# Altium integrated library Linear Technology PMIC-Switching Reg LTC1174-LTC3901.IntLib: 2647 symbols (part 61 of 310)
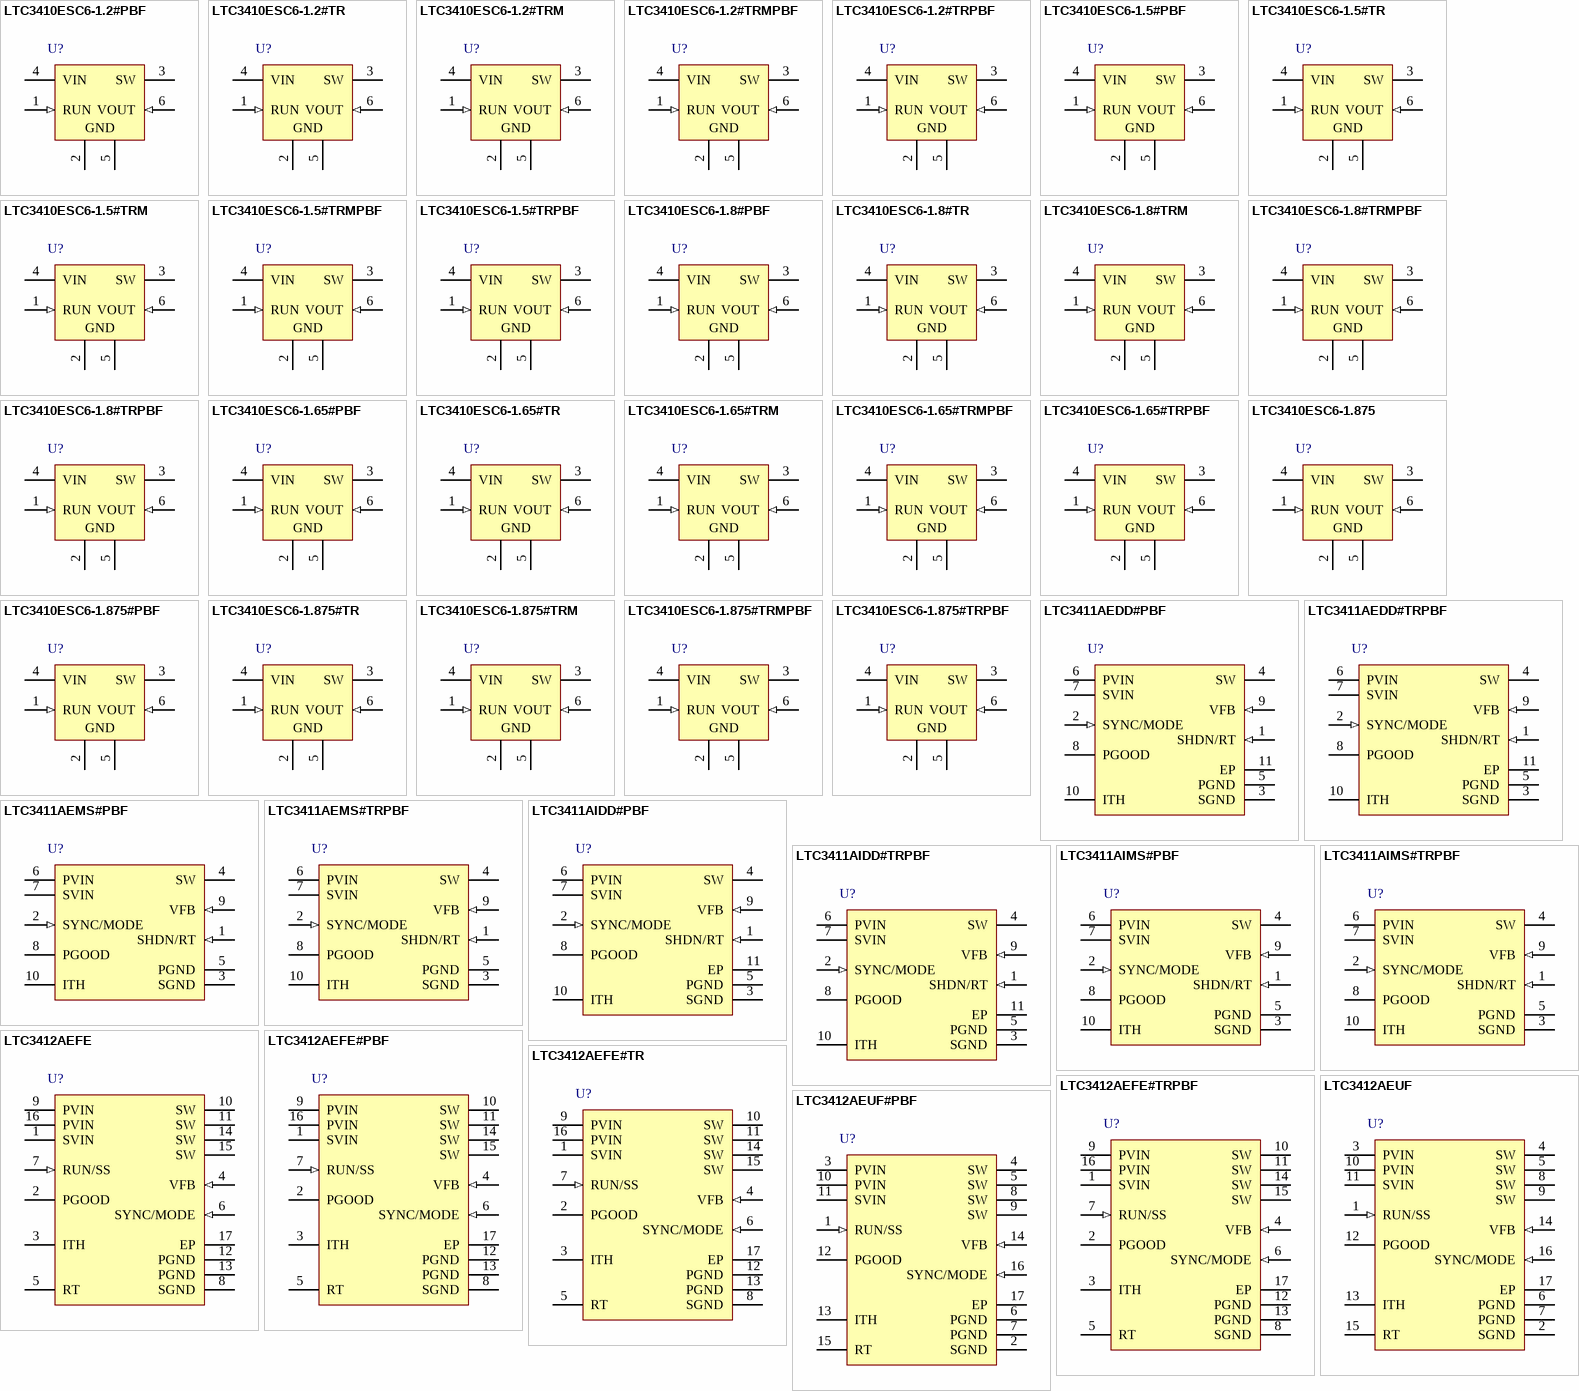
[diagram p151: symbols LTC3410ESC6-1.2#PBF to LTC3412AEUF#PBF]

## LTC3412AEUF
designator U?
3 A, 4 MHz, Monolithic Synchronous Step-Down Regulator, 16-pin QFN (UF-16), -40 to 125 degC; Manufacturer: Linear Technology; PartNumber: LTC3412AEUF; Number of Outputs: 1; PackageReference: UF-16; PackageDescription: 16-Pin Plastic QFN, Body 4 x 4 mm, Pitch 0.65 mm; Supplier 1: Newark; Supplier Part Number 1: 58M0740; RoHS: FALSE; Code_JEDEC: MO-220
footprint LT-UF-16_N (QFN, 16-Leads, Body 4.1x4.1mm, Pitch 0.65mm, Thermal Pad 2.15x2.15mm, IPC Medium Density)
footprint LT-UF-16_L (QFN, 16-Leads, Body 4.1x4.1mm, Pitch 0.65mm, Thermal Pad 2.15x2.15mm, IPC High Density)
footprint LT-UF-16_M (QFN, 16-Leads, Body 4.1x4.1mm, Pitch 0.65mm, Thermal Pad 2.15x2.15mm, IPC Low Density)
pins: 1 RUN/SS (in) "Run Control and Soft-Start Input. Forcing this pin below 0.5V shuts down the LTC3412A. In shutdown all functions are disabled drawing <1uA of supply current. A capacitor to ground from this pin sets the ramp time to full (See Datasheet)", 2 SGND (power) "Signal Ground. All small-signal components, compensation components and the exposed pad on the bottom side of the IC should connect to this ground, which in turn connects to PGND at one point.", 3 PVIN (power) "Power Input Supply. Decouple this pin to PGND with a capacitor.", 4 SW (power) "Switch Node Connection to the Inductor. This pin connects to the drains of the internal main and synchronous power MOSFET switches.", 5 SW (power) "Switch Node Connection to the Inductor. This pin connects to the drains of the internal main and synchronous power MOSFET switches.", 6 PGND (power) "Power Ground. Connect this pin close to the (-) terminal of CIN and COUT.", 7 PGND (power) "Power Ground. Connect this pin close to the (-) terminal of CIN and COUT.", 8 SW (power) "Switch Node Connection to the Inductor. This pin connects to the drains of the internal main and synchronous power MOSFET switches.", 9 SW (power) "Switch Node Connection to the Inductor. This pin connects to the drains of the internal main and synchronous power MOSFET switches.", 10 PVIN (power) "Power Input Supply. Decouple this pin to PGND with a capacitor.", 11 SVIN (power) "Signal Input Supply. Decouple this pin to SGND with a capacitor.", 12 PGOOD (oc) "Power Good Output. Open-drain logic output that is pulled to ground when the output voltage is not within +/-7.5% of regulation point.", 13 ITH "Error Amplifier Compensation Point. The current comparator threshold increases with this control voltage. Nominal voltage range for this pin is from 0.2V to 1.4V with 0.4V corresponding to the zero-sense voltage (zero (See Datasheet)", 14 VFB (in) "Feedback Pin. Receives the feedback voltage from a resistive divider connected across the output.", 15 RT "Oscillator Resistor Input. Connecting a resistor to ground from this pin sets the switching frequency.", 16 SYNC/MODE (in) "Mode Select and External Clock Synchronization Input. To select forced continuous, tie to SVIN. Connecting this pin to a voltage between 0V and 1V selects Burst Mode operation with the burst clamp set to the pin voltage.", 17 EP (power) "Signal Ground. Must be soldered to PCB for electrical connection and rated thermal performance."

## LTC3412AEUF#PBF
designator U?
3 A, 4 MHz, Monolithic Synchronous Step-Down Regulator, 16-pin QFN (UF-16), -40 to 125 degC, Pb-Free; Manufacturer: Linear Technology; PartNumber: LTC3412AEUF#PBF; Number of Outputs: 1; PackageReference: UF-16; PackageDescription: 16-Pin Plastic QFN, Body 4 x 4 mm, Pitch 0.65 mm; Supplier 1: Digi-Key; Supplier Part Number 1: LTC3412AEUF#PBF-ND; RoHS: TRUE; Code_JEDEC: MO-220
footprint LT-UF-16_N (QFN, 16-Leads, Body 4.1x4.1mm, Pitch 0.65mm, Thermal Pad 2.15x2.15mm, IPC Medium Density)
footprint LT-UF-16_L (QFN, 16-Leads, Body 4.1x4.1mm, Pitch 0.65mm, Thermal Pad 2.15x2.15mm, IPC High Density)
footprint LT-UF-16_M (QFN, 16-Leads, Body 4.1x4.1mm, Pitch 0.65mm, Thermal Pad 2.15x2.15mm, IPC Low Density)
pins: 1 RUN/SS (in) "Run Control and Soft-Start Input. Forcing this pin below 0.5V shuts down the LTC3412A. In shutdown all functions are disabled drawing <1uA of supply current. A capacitor to ground from this pin sets the ramp time to full (See Datasheet)", 2 SGND (power) "Signal Ground. All small-signal components, compensation components and the exposed pad on the bottom side of the IC should connect to this ground, which in turn connects to PGND at one point.", 3 PVIN (power) "Power Input Supply. Decouple this pin to PGND with a capacitor.", 4 SW (power) "Switch Node Connection to the Inductor. This pin connects to the drains of the internal main and synchronous power MOSFET switches.", 5 SW (power) "Switch Node Connection to the Inductor. This pin connects to the drains of the internal main and synchronous power MOSFET switches.", 6 PGND (power) "Power Ground. Connect this pin close to the (-) terminal of CIN and COUT.", 7 PGND (power) "Power Ground. Connect this pin close to the (-) terminal of CIN and COUT.", 8 SW (power) "Switch Node Connection to the Inductor. This pin connects to the drains of the internal main and synchronous power MOSFET switches.", 9 SW (power) "Switch Node Connection to the Inductor. This pin connects to the drains of the internal main and synchronous power MOSFET switches.", 10 PVIN (power) "Power Input Supply. Decouple this pin to PGND with a capacitor.", 11 SVIN (power) "Signal Input Supply. Decouple this pin to SGND with a capacitor.", 12 PGOOD (oc) "Power Good Output. Open-drain logic output that is pulled to ground when the output voltage is not within +/-7.5% of regulation point.", 13 ITH "Error Amplifier Compensation Point. The current comparator threshold increases with this control voltage. Nominal voltage range for this pin is from 0.2V to 1.4V with 0.4V corresponding to the zero-sense voltage (zero (See Datasheet)", 14 VFB (in) "Feedback Pin. Receives the feedback voltage from a resistive divider connected across the output.", 15 RT "Oscillator Resistor Input. Connecting a resistor to ground from this pin sets the switching frequency.", 16 SYNC/MODE (in) "Mode Select and External Clock Synchronization Input. To select forced continuous, tie to SVIN. Connecting this pin to a voltage between 0V and 1V selects Burst Mode operation with the burst clamp set to the pin voltage.", 17 EP (power) "Signal Ground. Must be soldered to PCB for electrical connection and rated thermal performance."

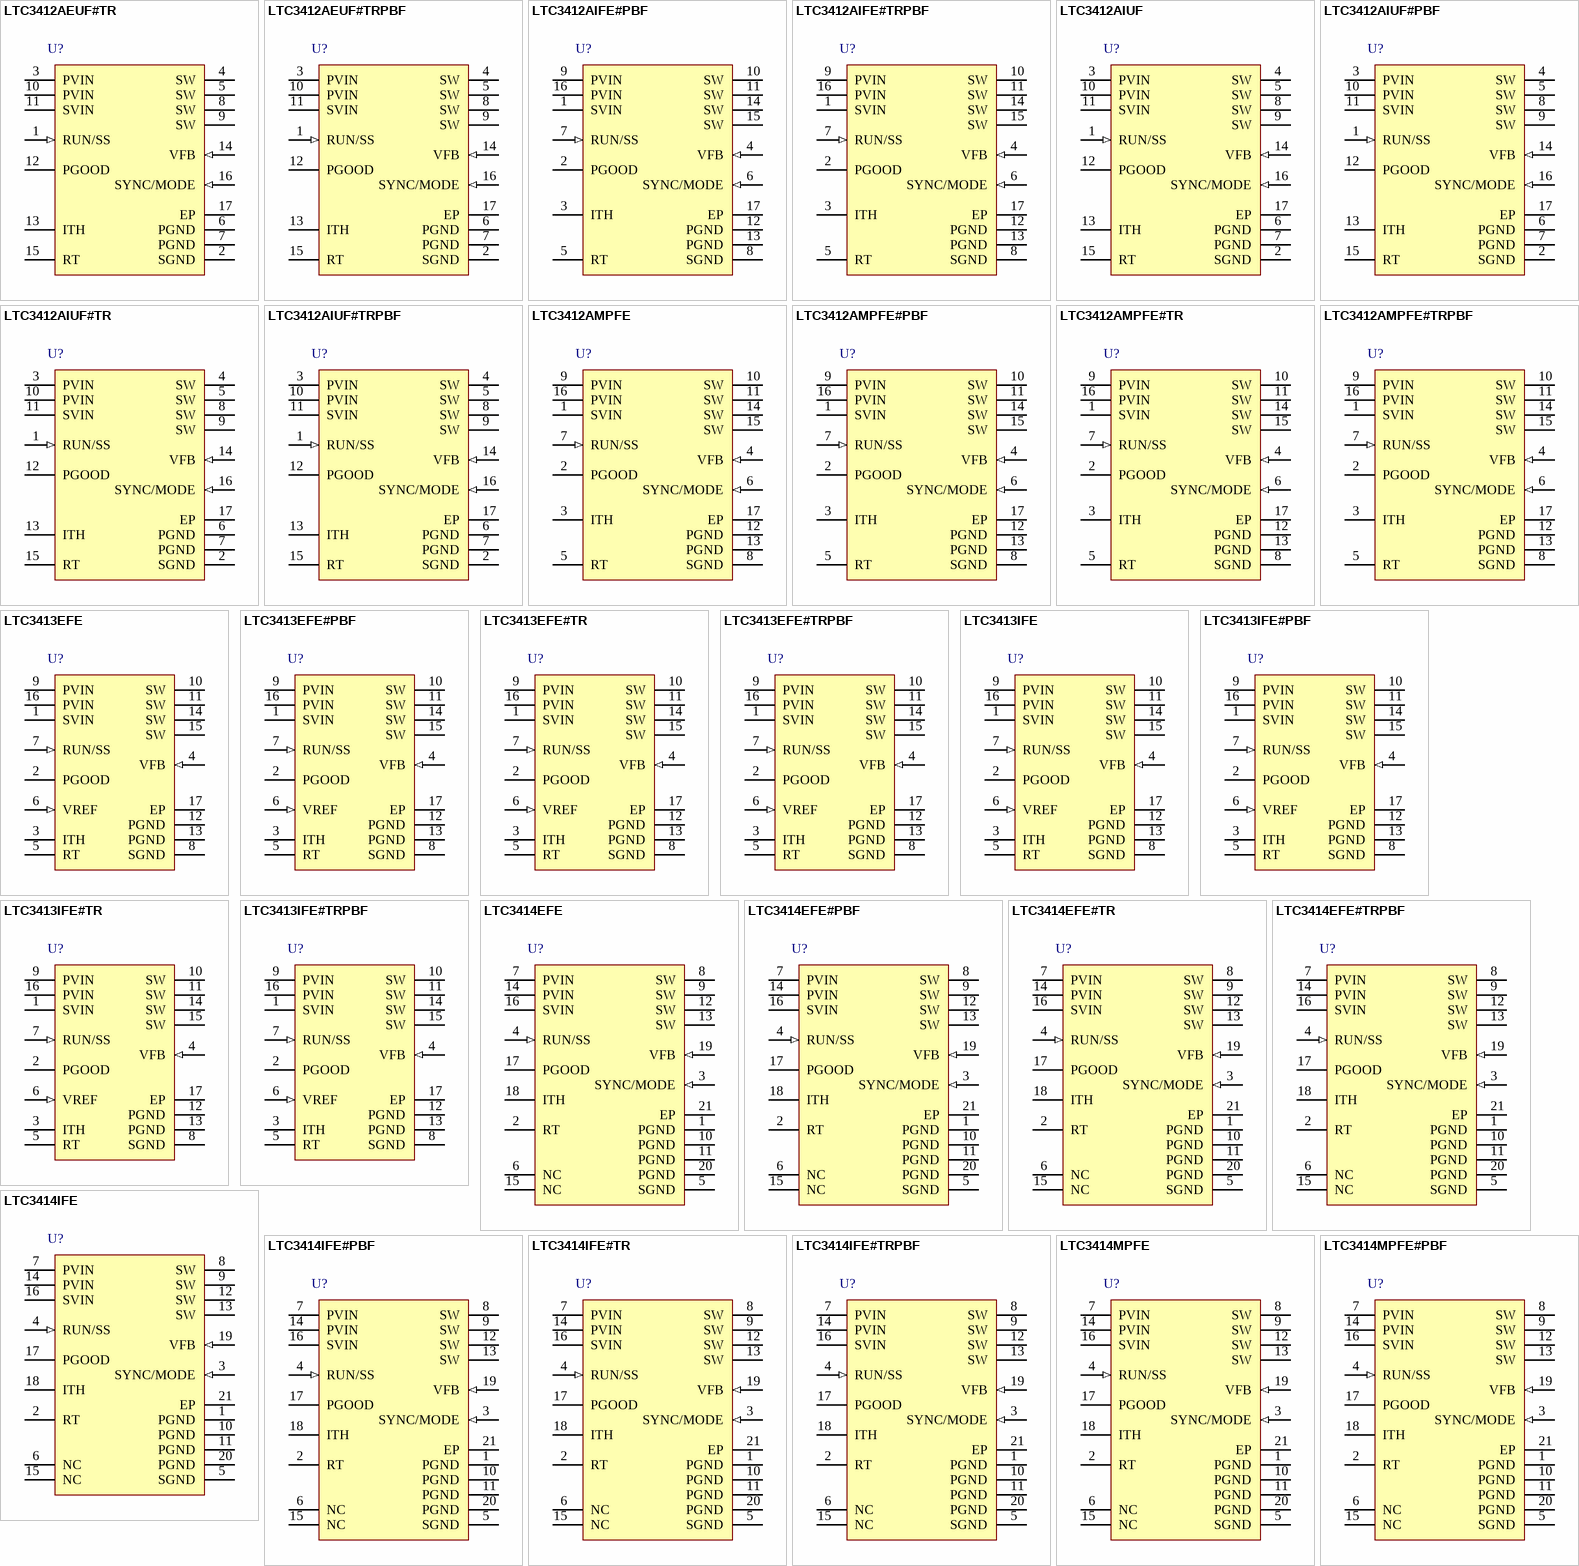
[diagram p22: symbols LTC3412AEUF#TR to LTC3414MPFE#PBF]

## LTC3412AEUF#TR
designator U?
3 A, 4 MHz, Monolithic Synchronous Step-Down Regulator, 16-pin QFN (UF-16), -40 to 125 degC, Tape and Reel; Manufacturer: Linear Technology; PartNumber: LTC3412AEUF#TR; Number of Outputs: 1; PackageReference: UF-16; PackageDescription: 16-Pin Plastic QFN, Body 4 x 4 mm, Pitch 0.65 mm; RoHS: FALSE; Code_JEDEC: MO-220
footprint LT-UF-16_N (QFN, 16-Leads, Body 4.1x4.1mm, Pitch 0.65mm, Thermal Pad 2.15x2.15mm, IPC Medium Density)
footprint LT-UF-16_L (QFN, 16-Leads, Body 4.1x4.1mm, Pitch 0.65mm, Thermal Pad 2.15x2.15mm, IPC High Density)
footprint LT-UF-16_M (QFN, 16-Leads, Body 4.1x4.1mm, Pitch 0.65mm, Thermal Pad 2.15x2.15mm, IPC Low Density)
pins: 1 RUN/SS (in) "Run Control and Soft-Start Input. Forcing this pin below 0.5V shuts down the LTC3412A. In shutdown all functions are disabled drawing <1uA of supply current. A capacitor to ground from this pin sets the ramp time to full (See Datasheet)", 2 SGND (power) "Signal Ground. All small-signal components, compensation components and the exposed pad on the bottom side of the IC should connect to this ground, which in turn connects to PGND at one point.", 3 PVIN (power) "Power Input Supply. Decouple this pin to PGND with a capacitor.", 4 SW (power) "Switch Node Connection to the Inductor. This pin connects to the drains of the internal main and synchronous power MOSFET switches.", 5 SW (power) "Switch Node Connection to the Inductor. This pin connects to the drains of the internal main and synchronous power MOSFET switches.", 6 PGND (power) "Power Ground. Connect this pin close to the (-) terminal of CIN and COUT.", 7 PGND (power) "Power Ground. Connect this pin close to the (-) terminal of CIN and COUT.", 8 SW (power) "Switch Node Connection to the Inductor. This pin connects to the drains of the internal main and synchronous power MOSFET switches.", 9 SW (power) "Switch Node Connection to the Inductor. This pin connects to the drains of the internal main and synchronous power MOSFET switches.", 10 PVIN (power) "Power Input Supply. Decouple this pin to PGND with a capacitor.", 11 SVIN (power) "Signal Input Supply. Decouple this pin to SGND with a capacitor.", 12 PGOOD (oc) "Power Good Output. Open-drain logic output that is pulled to ground when the output voltage is not within +/-7.5% of regulation point.", 13 ITH "Error Amplifier Compensation Point. The current comparator threshold increases with this control voltage. Nominal voltage range for this pin is from 0.2V to 1.4V with 0.4V corresponding to the zero-sense voltage (zero (See Datasheet)", 14 VFB (in) "Feedback Pin. Receives the feedback voltage from a resistive divider connected across the output.", 15 RT "Oscillator Resistor Input. Connecting a resistor to ground from this pin sets the switching frequency.", 16 SYNC/MODE (in) "Mode Select and External Clock Synchronization Input. To select forced continuous, tie to SVIN. Connecting this pin to a voltage between 0V and 1V selects Burst Mode operation with the burst clamp set to the pin voltage.", 17 EP (power) "Signal Ground. Must be soldered to PCB for electrical connection and rated thermal performance."

## LTC3412AEUF#TRPBF
designator U?
3 A, 4 MHz, Monolithic Synchronous Step-Down Regulator, 16-pin QFN (UF-16), -40 to 125 degC, Pb-Free, Tape and Reel; Manufacturer: Linear Technology; PartNumber: LTC3412AEUF#TRPBF; Number of Outputs: 1; PackageReference: UF-16; PackageDescription: 16-Pin Plastic QFN, Body 4 x 4 mm, Pitch 0.65 mm; Supplier 1: Digi-Key; Supplier Part Number 1: LTC3412AEUF#TRPBF-ND; RoHS: TRUE; Code_JEDEC: MO-220
footprint LT-UF-16_N (QFN, 16-Leads, Body 4.1x4.1mm, Pitch 0.65mm, Thermal Pad 2.15x2.15mm, IPC Medium Density)
footprint LT-UF-16_L (QFN, 16-Leads, Body 4.1x4.1mm, Pitch 0.65mm, Thermal Pad 2.15x2.15mm, IPC High Density)
footprint LT-UF-16_M (QFN, 16-Leads, Body 4.1x4.1mm, Pitch 0.65mm, Thermal Pad 2.15x2.15mm, IPC Low Density)
pins: 1 RUN/SS (in) "Run Control and Soft-Start Input. Forcing this pin below 0.5V shuts down the LTC3412A. In shutdown all functions are disabled drawing <1uA of supply current. A capacitor to ground from this pin sets the ramp time to full (See Datasheet)", 2 SGND (power) "Signal Ground. All small-signal components, compensation components and the exposed pad on the bottom side of the IC should connect to this ground, which in turn connects to PGND at one point.", 3 PVIN (power) "Power Input Supply. Decouple this pin to PGND with a capacitor.", 4 SW (power) "Switch Node Connection to the Inductor. This pin connects to the drains of the internal main and synchronous power MOSFET switches.", 5 SW (power) "Switch Node Connection to the Inductor. This pin connects to the drains of the internal main and synchronous power MOSFET switches.", 6 PGND (power) "Power Ground. Connect this pin close to the (-) terminal of CIN and COUT.", 7 PGND (power) "Power Ground. Connect this pin close to the (-) terminal of CIN and COUT.", 8 SW (power) "Switch Node Connection to the Inductor. This pin connects to the drains of the internal main and synchronous power MOSFET switches.", 9 SW (power) "Switch Node Connection to the Inductor. This pin connects to the drains of the internal main and synchronous power MOSFET switches.", 10 PVIN (power) "Power Input Supply. Decouple this pin to PGND with a capacitor.", 11 SVIN (power) "Signal Input Supply. Decouple this pin to SGND with a capacitor.", 12 PGOOD (oc) "Power Good Output. Open-drain logic output that is pulled to ground when the output voltage is not within +/-7.5% of regulation point.", 13 ITH "Error Amplifier Compensation Point. The current comparator threshold increases with this control voltage. Nominal voltage range for this pin is from 0.2V to 1.4V with 0.4V corresponding to the zero-sense voltage (zero (See Datasheet)", 14 VFB (in) "Feedback Pin. Receives the feedback voltage from a resistive divider connected across the output.", 15 RT "Oscillator Resistor Input. Connecting a resistor to ground from this pin sets the switching frequency.", 16 SYNC/MODE (in) "Mode Select and External Clock Synchronization Input. To select forced continuous, tie to SVIN. Connecting this pin to a voltage between 0V and 1V selects Burst Mode operation with the burst clamp set to the pin voltage.", 17 EP (power) "Signal Ground. Must be soldered to PCB for electrical connection and rated thermal performance."

## LTC3412AIFE#PBF
designator U?
3 A, 4 MHz, Monolithic Synchronous Step-Down Regulator, 16-pin SOP (FE-16-EPV-BA), -40 to 125 degC, Pb-Free; Manufacturer: Linear Technology; PartNumber: LTC3412AIFE#PBF; Number of Outputs: 1; PackageReference: FE-16; PackageDescription: 16-Pin Plastic TSSOP, Body 5 x 4.4 mm, Pitch 0.65 mm; Supplier 1: Digi-Key; Supplier Part Number 1: LTC3412AIFE#PBF-ND; RoHS: TRUE
footprint LT-FE-16-EPV-BA_N (SOP, 16-Leads, Body 5x4.4mm, Pitch 0.65mm, Thermal Pad 2.74x2.74mm, IPC Medium Density)
footprint LT-FE-16-EPV-BA_L (SOP, 16-Leads, Body 5x4.4mm, Pitch 0.65mm, Thermal Pad 2.74x2.74mm, IPC High Density)
footprint LT-FE-16-EPV-BA_M (SOP, 16-Leads, Body 5x4.4mm, Pitch 0.65mm, Thermal Pad 2.74x2.74mm, IPC Low Density)
pins: 1 SVIN (power) "Signal Input Supply. Decouple this pin to SGND with a capacitor.", 2 PGOOD (oc) "Power Good Output. Open-drain logic output that is pulled to ground when the output voltage is not within +/-7.5% of regulation point.", 3 ITH "Error Amplifier Compensation Point. The current comparator threshold increases with this control voltage. Nominal voltage range for this pin is from 0.2V to 1.4V with 0.4V corresponding to the zero-sense voltage (zero (See Datasheet)", 4 VFB (in) "Feedback Pin. Receives the feedback voltage from a resistive divider connected across the output.", 5 RT "Oscillator Resistor Input. Connecting a resistor to ground from this pin sets the switching frequency", 6 SYNC/MODE (in) "Mode Select and External Clock Synchronization Input. To select forced continuous, tie to SVIN. Connecting this pin to a voltage between 0V and 1V selects Burst Mode operation with the burst clamp set to the pin voltage.", 7 RUN/SS (in) "Run Control and Soft-Start Input. Forcing this pin below 0.5V shuts down the LTC3412A. In shutdown all functions are disabled drawing <1uA of  supply current. A capacitor to ground from this pin sets the ramp time to full (See Datasheet)", 8 SGND (power) "Signal Ground. All small-signal components, compensation components and the exposed pad on the bottom side of the IC should connect to this ground, which in turn connects to PGND at one point.", 9 PVIN (power) "Power Input Supply. Decouple this pin to PGND with a capacitor", 10 SW (power) "Switch Node Connection to the Inductor. This pin connects to the drains of the internal main and synchronous power MOSFET switches.", 11 SW (power) "Switch Node Connection to the Inductor. This pin connects to the drains of the internal main and synchronous power MOSFET switches.", 12 PGND (power) "Power Ground. Connect this pin close to the (-) terminal of CIN and COUT.", 13 PGND (power) "Power Ground. Connect this pin close to the (-) terminal of CIN and COUT.", 14 SW (power) "Switch Node Connection to the Inductor. This pin connects to the drains of the internal main and synchronous power MOSFET switches.", 15 SW (power) "Switch Node Connection to the Inductor. This pin connects to the drains of the internal main and synchronous power MOSFET switches.", 16 PVIN (power) "Power Input Supply. Decouple this pin to PGND with a capacitor", 17 EP (power) "Signal Ground. Must be soldered to PCB for electrical connection and rated thermal performance."

## LTC3412AIFE#TRPBF
designator U?
3 A, 4 MHz, Monolithic Synchronous Step-Down Regulator, 16-pin SOP (FE-16-EPV-BA), -40 to 125 degC, Pb-Free, Tape and Reel; Manufacturer: Linear Technology; PartNumber: LTC3412AIFE#TRPBF; Number of Outputs: 1; PackageReference: FE-16; PackageDescription: 16-Pin Plastic TSSOP, Body 5 x 4.4 mm, Pitch 0.65 mm; Supplier 1: Digi-Key; Supplier Part Number 1: LTC3412AIFE#TRPBF-ND; RoHS: TRUE
footprint LT-FE-16-EPV-BA_N (SOP, 16-Leads, Body 5x4.4mm, Pitch 0.65mm, Thermal Pad 2.74x2.74mm, IPC Medium Density)
footprint LT-FE-16-EPV-BA_L (SOP, 16-Leads, Body 5x4.4mm, Pitch 0.65mm, Thermal Pad 2.74x2.74mm, IPC High Density)
footprint LT-FE-16-EPV-BA_M (SOP, 16-Leads, Body 5x4.4mm, Pitch 0.65mm, Thermal Pad 2.74x2.74mm, IPC Low Density)
pins: 1 SVIN (power) "Signal Input Supply. Decouple this pin to SGND with a capacitor.", 2 PGOOD (oc) "Power Good Output. Open-drain logic output that is pulled to ground when the output voltage is not within +/-7.5% of regulation point.", 3 ITH "Error Amplifier Compensation Point. The current comparator threshold increases with this control voltage. Nominal voltage range for this pin is from 0.2V to 1.4V with 0.4V corresponding to the zero-sense voltage (zero (See Datasheet)", 4 VFB (in) "Feedback Pin. Receives the feedback voltage from a resistive divider connected across the output.", 5 RT "Oscillator Resistor Input. Connecting a resistor to ground from this pin sets the switching frequency", 6 SYNC/MODE (in) "Mode Select and External Clock Synchronization Input. To select forced continuous, tie to SVIN. Connecting this pin to a voltage between 0V and 1V selects Burst Mode operation with the burst clamp set to the pin voltage.", 7 RUN/SS (in) "Run Control and Soft-Start Input. Forcing this pin below 0.5V shuts down the LTC3412A. In shutdown all functions are disabled drawing <1uA of  supply current. A capacitor to ground from this pin sets the ramp time to full (See Datasheet)", 8 SGND (power) "Signal Ground. All small-signal components, compensation components and the exposed pad on the bottom side of the IC should connect to this ground, which in turn connects to PGND at one point.", 9 PVIN (power) "Power Input Supply. Decouple this pin to PGND with a capacitor", 10 SW (power) "Switch Node Connection to the Inductor. This pin connects to the drains of the internal main and synchronous power MOSFET switches.", 11 SW (power) "Switch Node Connection to the Inductor. This pin connects to the drains of the internal main and synchronous power MOSFET switches.", 12 PGND (power) "Power Ground. Connect this pin close to the (-) terminal of CIN and COUT.", 13 PGND (power) "Power Ground. Connect this pin close to the (-) terminal of CIN and COUT.", 14 SW (power) "Switch Node Connection to the Inductor. This pin connects to the drains of the internal main and synchronous power MOSFET switches.", 15 SW (power) "Switch Node Connection to the Inductor. This pin connects to the drains of the internal main and synchronous power MOSFET switches.", 16 PVIN (power) "Power Input Supply. Decouple this pin to PGND with a capacitor", 17 EP (power) "Signal Ground. Must be soldered to PCB for electrical connection and rated thermal performance."

## LTC3412AIUF
designator U?
3 A, 4 MHz, Monolithic Synchronous Step-Down Regulator, 16-pin QFN (UF-16), -40 to 125 degC; Manufacturer: Linear Technology; PartNumber: LTC3412AIUF; Number of Outputs: 1; PackageReference: UF-16; PackageDescription: 16-Pin Plastic QFN, Body 4 x 4 mm, Pitch 0.65 mm; Supplier 1: Newark; Supplier Part Number 1: 15N8254; RoHS: FALSE; Code_JEDEC: MO-220
footprint LT-UF-16_N (QFN, 16-Leads, Body 4.1x4.1mm, Pitch 0.65mm, Thermal Pad 2.15x2.15mm, IPC Medium Density)
footprint LT-UF-16_L (QFN, 16-Leads, Body 4.1x4.1mm, Pitch 0.65mm, Thermal Pad 2.15x2.15mm, IPC High Density)
footprint LT-UF-16_M (QFN, 16-Leads, Body 4.1x4.1mm, Pitch 0.65mm, Thermal Pad 2.15x2.15mm, IPC Low Density)
pins: 1 RUN/SS (in) "Run Control and Soft-Start Input. Forcing this pin below 0.5V shuts down the LTC3412A. In shutdown all functions are disabled drawing <1uA of supply current. A capacitor to ground from this pin sets the ramp time to full (See Datasheet)", 2 SGND (power) "Signal Ground. All small-signal components, compensation components and the exposed pad on the bottom side of the IC should connect to this ground, which in turn connects to PGND at one point.", 3 PVIN (power) "Power Input Supply. Decouple this pin to PGND with a capacitor.", 4 SW (power) "Switch Node Connection to the Inductor. This pin connects to the drains of the internal main and synchronous power MOSFET switches.", 5 SW (power) "Switch Node Connection to the Inductor. This pin connects to the drains of the internal main and synchronous power MOSFET switches.", 6 PGND (power) "Power Ground. Connect this pin close to the (-) terminal of CIN and COUT.", 7 PGND (power) "Power Ground. Connect this pin close to the (-) terminal of CIN and COUT.", 8 SW (power) "Switch Node Connection to the Inductor. This pin connects to the drains of the internal main and synchronous power MOSFET switches.", 9 SW (power) "Switch Node Connection to the Inductor. This pin connects to the drains of the internal main and synchronous power MOSFET switches.", 10 PVIN (power) "Power Input Supply. Decouple this pin to PGND with a capacitor.", 11 SVIN (power) "Signal Input Supply. Decouple this pin to SGND with a capacitor.", 12 PGOOD (oc) "Power Good Output. Open-drain logic output that is pulled to ground when the output voltage is not within +/-7.5% of regulation point.", 13 ITH "Error Amplifier Compensation Point. The current comparator threshold increases with this control voltage. Nominal voltage range for this pin is from 0.2V to 1.4V with 0.4V corresponding to the zero-sense voltage (zero (See Datasheet)", 14 VFB (in) "Feedback Pin. Receives the feedback voltage from a resistive divider connected across the output.", 15 RT "Oscillator Resistor Input. Connecting a resistor to ground from this pin sets the switching frequency.", 16 SYNC/MODE (in) "Mode Select and External Clock Synchronization Input. To select forced continuous, tie to SVIN. Connecting this pin to a voltage between 0V and 1V selects Burst Mode operation with the burst clamp set to the pin voltage.", 17 EP (power) "Signal Ground. Must be soldered to PCB for electrical connection and rated thermal performance."

## LTC3412AIUF#PBF
designator U?
3 A, 4 MHz, Monolithic Synchronous Step-Down Regulator, 16-pin QFN (UF-16), -40 to 125 degC, Pb-Free; Manufacturer: Linear Technology; PartNumber: LTC3412AIUF#PBF; Number of Outputs: 1; PackageReference: UF-16; PackageDescription: 16-Pin Plastic QFN, Body 4 x 4 mm, Pitch 0.65 mm; Supplier 1: Digi-Key; Supplier Part Number 1: LTC3412AIUF#PBF-ND; RoHS: TRUE; Code_JEDEC: MO-220
footprint LT-UF-16_N (QFN, 16-Leads, Body 4.1x4.1mm, Pitch 0.65mm, Thermal Pad 2.15x2.15mm, IPC Medium Density)
footprint LT-UF-16_L (QFN, 16-Leads, Body 4.1x4.1mm, Pitch 0.65mm, Thermal Pad 2.15x2.15mm, IPC High Density)
footprint LT-UF-16_M (QFN, 16-Leads, Body 4.1x4.1mm, Pitch 0.65mm, Thermal Pad 2.15x2.15mm, IPC Low Density)
pins: 1 RUN/SS (in) "Run Control and Soft-Start Input. Forcing this pin below 0.5V shuts down the LTC3412A. In shutdown all functions are disabled drawing <1uA of supply current. A capacitor to ground from this pin sets the ramp time to full (See Datasheet)", 2 SGND (power) "Signal Ground. All small-signal components, compensation components and the exposed pad on the bottom side of the IC should connect to this ground, which in turn connects to PGND at one point.", 3 PVIN (power) "Power Input Supply. Decouple this pin to PGND with a capacitor.", 4 SW (power) "Switch Node Connection to the Inductor. This pin connects to the drains of the internal main and synchronous power MOSFET switches.", 5 SW (power) "Switch Node Connection to the Inductor. This pin connects to the drains of the internal main and synchronous power MOSFET switches.", 6 PGND (power) "Power Ground. Connect this pin close to the (-) terminal of CIN and COUT.", 7 PGND (power) "Power Ground. Connect this pin close to the (-) terminal of CIN and COUT.", 8 SW (power) "Switch Node Connection to the Inductor. This pin connects to the drains of the internal main and synchronous power MOSFET switches.", 9 SW (power) "Switch Node Connection to the Inductor. This pin connects to the drains of the internal main and synchronous power MOSFET switches.", 10 PVIN (power) "Power Input Supply. Decouple this pin to PGND with a capacitor.", 11 SVIN (power) "Signal Input Supply. Decouple this pin to SGND with a capacitor.", 12 PGOOD (oc) "Power Good Output. Open-drain logic output that is pulled to ground when the output voltage is not within +/-7.5% of regulation point.", 13 ITH "Error Amplifier Compensation Point. The current comparator threshold increases with this control voltage. Nominal voltage range for this pin is from 0.2V to 1.4V with 0.4V corresponding to the zero-sense voltage (zero (See Datasheet)", 14 VFB (in) "Feedback Pin. Receives the feedback voltage from a resistive divider connected across the output.", 15 RT "Oscillator Resistor Input. Connecting a resistor to ground from this pin sets the switching frequency.", 16 SYNC/MODE (in) "Mode Select and External Clock Synchronization Input. To select forced continuous, tie to SVIN. Connecting this pin to a voltage between 0V and 1V selects Burst Mode operation with the burst clamp set to the pin voltage.", 17 EP (power) "Signal Ground. Must be soldered to PCB for electrical connection and rated thermal performance."

## LTC3412AIUF#TR
designator U?
3 A, 4 MHz, Monolithic Synchronous Step-Down Regulator, 16-pin QFN (UF-16), -40 to 125 degC, Tape and Reel; Manufacturer: Linear Technology; PartNumber: LTC3412AIUF#TR; Number of Outputs: 1; PackageReference: UF-16; PackageDescription: 16-Pin Plastic QFN, Body 4 x 4 mm, Pitch 0.65 mm; RoHS: FALSE; Code_JEDEC: MO-220
footprint LT-UF-16_N (QFN, 16-Leads, Body 4.1x4.1mm, Pitch 0.65mm, Thermal Pad 2.15x2.15mm, IPC Medium Density)
footprint LT-UF-16_L (QFN, 16-Leads, Body 4.1x4.1mm, Pitch 0.65mm, Thermal Pad 2.15x2.15mm, IPC High Density)
footprint LT-UF-16_M (QFN, 16-Leads, Body 4.1x4.1mm, Pitch 0.65mm, Thermal Pad 2.15x2.15mm, IPC Low Density)
pins: 1 RUN/SS (in) "Run Control and Soft-Start Input. Forcing this pin below 0.5V shuts down the LTC3412A. In shutdown all functions are disabled drawing <1uA of supply current. A capacitor to ground from this pin sets the ramp time to full (See Datasheet)", 2 SGND (power) "Signal Ground. All small-signal components, compensation components and the exposed pad on the bottom side of the IC should connect to this ground, which in turn connects to PGND at one point.", 3 PVIN (power) "Power Input Supply. Decouple this pin to PGND with a capacitor.", 4 SW (power) "Switch Node Connection to the Inductor. This pin connects to the drains of the internal main and synchronous power MOSFET switches.", 5 SW (power) "Switch Node Connection to the Inductor. This pin connects to the drains of the internal main and synchronous power MOSFET switches.", 6 PGND (power) "Power Ground. Connect this pin close to the (-) terminal of CIN and COUT.", 7 PGND (power) "Power Ground. Connect this pin close to the (-) terminal of CIN and COUT.", 8 SW (power) "Switch Node Connection to the Inductor. This pin connects to the drains of the internal main and synchronous power MOSFET switches.", 9 SW (power) "Switch Node Connection to the Inductor. This pin connects to the drains of the internal main and synchronous power MOSFET switches.", 10 PVIN (power) "Power Input Supply. Decouple this pin to PGND with a capacitor.", 11 SVIN (power) "Signal Input Supply. Decouple this pin to SGND with a capacitor.", 12 PGOOD (oc) "Power Good Output. Open-drain logic output that is pulled to ground when the output voltage is not within +/-7.5% of regulation point.", 13 ITH "Error Amplifier Compensation Point. The current comparator threshold increases with this control voltage. Nominal voltage range for this pin is from 0.2V to 1.4V with 0.4V corresponding to the zero-sense voltage (zero (See Datasheet)", 14 VFB (in) "Feedback Pin. Receives the feedback voltage from a resistive divider connected across the output.", 15 RT "Oscillator Resistor Input. Connecting a resistor to ground from this pin sets the switching frequency.", 16 SYNC/MODE (in) "Mode Select and External Clock Synchronization Input. To select forced continuous, tie to SVIN. Connecting this pin to a voltage between 0V and 1V selects Burst Mode operation with the burst clamp set to the pin voltage.", 17 EP (power) "Signal Ground. Must be soldered to PCB for electrical connection and rated thermal performance."

## LTC3412AIUF#TRPBF
designator U?
3 A, 4 MHz, Monolithic Synchronous Step-Down Regulator, 16-pin QFN (UF-16), -40 to 125 degC, Pb-Free, Tape and Reel; Manufacturer: Linear Technology; PartNumber: LTC3412AIUF#TRPBF; Number of Outputs: 1; PackageReference: UF-16; PackageDescription: 16-Pin Plastic QFN, Body 4 x 4 mm, Pitch 0.65 mm; Supplier 1: Digi-Key; Supplier Part Number 1: LTC3412AIUF#TRPBF-ND; RoHS: TRUE; Code_JEDEC: MO-220
footprint LT-UF-16_N (QFN, 16-Leads, Body 4.1x4.1mm, Pitch 0.65mm, Thermal Pad 2.15x2.15mm, IPC Medium Density)
footprint LT-UF-16_L (QFN, 16-Leads, Body 4.1x4.1mm, Pitch 0.65mm, Thermal Pad 2.15x2.15mm, IPC High Density)
footprint LT-UF-16_M (QFN, 16-Leads, Body 4.1x4.1mm, Pitch 0.65mm, Thermal Pad 2.15x2.15mm, IPC Low Density)
pins: 1 RUN/SS (in) "Run Control and Soft-Start Input. Forcing this pin below 0.5V shuts down the LTC3412A. In shutdown all functions are disabled drawing <1uA of supply current. A capacitor to ground from this pin sets the ramp time to full (See Datasheet)", 2 SGND (power) "Signal Ground. All small-signal components, compensation components and the exposed pad on the bottom side of the IC should connect to this ground, which in turn connects to PGND at one point.", 3 PVIN (power) "Power Input Supply. Decouple this pin to PGND with a capacitor.", 4 SW (power) "Switch Node Connection to the Inductor. This pin connects to the drains of the internal main and synchronous power MOSFET switches.", 5 SW (power) "Switch Node Connection to the Inductor. This pin connects to the drains of the internal main and synchronous power MOSFET switches.", 6 PGND (power) "Power Ground. Connect this pin close to the (-) terminal of CIN and COUT.", 7 PGND (power) "Power Ground. Connect this pin close to the (-) terminal of CIN and COUT.", 8 SW (power) "Switch Node Connection to the Inductor. This pin connects to the drains of the internal main and synchronous power MOSFET switches.", 9 SW (power) "Switch Node Connection to the Inductor. This pin connects to the drains of the internal main and synchronous power MOSFET switches.", 10 PVIN (power) "Power Input Supply. Decouple this pin to PGND with a capacitor.", 11 SVIN (power) "Signal Input Supply. Decouple this pin to SGND with a capacitor.", 12 PGOOD (oc) "Power Good Output. Open-drain logic output that is pulled to ground when the output voltage is not within +/-7.5% of regulation point.", 13 ITH "Error Amplifier Compensation Point. The current comparator threshold increases with this control voltage. Nominal voltage range for this pin is from 0.2V to 1.4V with 0.4V corresponding to the zero-sense voltage (zero (See Datasheet)", 14 VFB (in) "Feedback Pin. Receives the feedback voltage from a resistive divider connected across the output.", 15 RT "Oscillator Resistor Input. Connecting a resistor to ground from this pin sets the switching frequency.", 16 SYNC/MODE (in) "Mode Select and External Clock Synchronization Input. To select forced continuous, tie to SVIN. Connecting this pin to a voltage between 0V and 1V selects Burst Mode operation with the burst clamp set to the pin voltage.", 17 EP (power) "Signal Ground. Must be soldered to PCB for electrical connection and rated thermal performance."

## LTC3412AMPFE
designator U?
3 A, 4 MHz, Monolithic Synchronous Step-Down Regulator, 16-pin SOP (FE-16-EPV-BA), -55 to 125 degC; Manufacturer: Linear Technology; PartNumber: LTC3412AMPFE; Number of Outputs: 1; PackageReference: FE-16; PackageDescription: 16-Pin Plastic TSSOP, Body 5 x 4.4 mm, Pitch 0.65 mm; Supplier 1: Newark; Supplier Part Number 1: 24R8661; RoHS: FALSE
footprint LT-FE-16-EPV-BA_N (SOP, 16-Leads, Body 5x4.4mm, Pitch 0.65mm, Thermal Pad 2.74x2.74mm, IPC Medium Density)
footprint LT-FE-16-EPV-BA_L (SOP, 16-Leads, Body 5x4.4mm, Pitch 0.65mm, Thermal Pad 2.74x2.74mm, IPC High Density)
footprint LT-FE-16-EPV-BA_M (SOP, 16-Leads, Body 5x4.4mm, Pitch 0.65mm, Thermal Pad 2.74x2.74mm, IPC Low Density)
pins: 1 SVIN (power) "Signal Input Supply. Decouple this pin to SGND with a capacitor.", 2 PGOOD (oc) "Power Good Output. Open-drain logic output that is pulled to ground when the output voltage is not within +/-7.5% of regulation point.", 3 ITH "Error Amplifier Compensation Point. The current comparator threshold increases with this control voltage. Nominal voltage range for this pin is from 0.2V to 1.4V with 0.4V corresponding to the zero-sense voltage (zero (See Datasheet)", 4 VFB (in) "Feedback Pin. Receives the feedback voltage from a resistive divider connected across the output.", 5 RT "Oscillator Resistor Input. Connecting a resistor to ground from this pin sets the switching frequency", 6 SYNC/MODE (in) "Mode Select and External Clock Synchronization Input. To select forced continuous, tie to SVIN. Connecting this pin to a voltage between 0V and 1V selects Burst Mode operation with the burst clamp set to the pin voltage.", 7 RUN/SS (in) "Run Control and Soft-Start Input. Forcing this pin below 0.5V shuts down the LTC3412A. In shutdown all functions are disabled drawing <1uA of  supply current. A capacitor to ground from this pin sets the ramp time to full (See Datasheet)", 8 SGND (power) "Signal Ground. All small-signal components, compensation components and the exposed pad on the bottom side of the IC should connect to this ground, which in turn connects to PGND at one point.", 9 PVIN (power) "Power Input Supply. Decouple this pin to PGND with a capacitor", 10 SW (power) "Switch Node Connection to the Inductor. This pin connects to the drains of the internal main and synchronous power MOSFET switches.", 11 SW (power) "Switch Node Connection to the Inductor. This pin connects to the drains of the internal main and synchronous power MOSFET switches.", 12 PGND (power) "Power Ground. Connect this pin close to the (-) terminal of CIN and COUT.", 13 PGND (power) "Power Ground. Connect this pin close to the (-) terminal of CIN and COUT.", 14 SW (power) "Switch Node Connection to the Inductor. This pin connects to the drains of the internal main and synchronous power MOSFET switches.", 15 SW (power) "Switch Node Connection to the Inductor. This pin connects to the drains of the internal main and synchronous power MOSFET switches.", 16 PVIN (power) "Power Input Supply. Decouple this pin to PGND with a capacitor", 17 EP (power) "Signal Ground. Must be soldered to PCB for electrical connection and rated thermal performance."

## LTC3412AMPFE#PBF
designator U?
3 A, 4 MHz, Monolithic Synchronous Step-Down Regulator, 16-pin SOP (FE-16-EPV-BA), -55 to 125 degC, Pb-Free; Manufacturer: Linear Technology; PartNumber: LTC3412AMPFE#PBF; Number of Outputs: 1; PackageReference: FE-16; PackageDescription: 16-Pin Plastic TSSOP, Body 5 x 4.4 mm, Pitch 0.65 mm; Supplier 1: Digi-Key; Supplier Part Number 1: LTC3412AMPFE#PBF-ND; RoHS: TRUE
footprint LT-FE-16-EPV-BA_N (SOP, 16-Leads, Body 5x4.4mm, Pitch 0.65mm, Thermal Pad 2.74x2.74mm, IPC Medium Density)
footprint LT-FE-16-EPV-BA_L (SOP, 16-Leads, Body 5x4.4mm, Pitch 0.65mm, Thermal Pad 2.74x2.74mm, IPC High Density)
footprint LT-FE-16-EPV-BA_M (SOP, 16-Leads, Body 5x4.4mm, Pitch 0.65mm, Thermal Pad 2.74x2.74mm, IPC Low Density)
pins: 1 SVIN (power) "Signal Input Supply. Decouple this pin to SGND with a capacitor.", 2 PGOOD (oc) "Power Good Output. Open-drain logic output that is pulled to ground when the output voltage is not within +/-7.5% of regulation point.", 3 ITH "Error Amplifier Compensation Point. The current comparator threshold increases with this control voltage. Nominal voltage range for this pin is from 0.2V to 1.4V with 0.4V corresponding to the zero-sense voltage (zero (See Datasheet)", 4 VFB (in) "Feedback Pin. Receives the feedback voltage from a resistive divider connected across the output.", 5 RT "Oscillator Resistor Input. Connecting a resistor to ground from this pin sets the switching frequency", 6 SYNC/MODE (in) "Mode Select and External Clock Synchronization Input. To select forced continuous, tie to SVIN. Connecting this pin to a voltage between 0V and 1V selects Burst Mode operation with the burst clamp set to the pin voltage.", 7 RUN/SS (in) "Run Control and Soft-Start Input. Forcing this pin below 0.5V shuts down the LTC3412A. In shutdown all functions are disabled drawing <1uA of  supply current. A capacitor to ground from this pin sets the ramp time to full (See Datasheet)", 8 SGND (power) "Signal Ground. All small-signal components, compensation components and the exposed pad on the bottom side of the IC should connect to this ground, which in turn connects to PGND at one point.", 9 PVIN (power) "Power Input Supply. Decouple this pin to PGND with a capacitor", 10 SW (power) "Switch Node Connection to the Inductor. This pin connects to the drains of the internal main and synchronous power MOSFET switches.", 11 SW (power) "Switch Node Connection to the Inductor. This pin connects to the drains of the internal main and synchronous power MOSFET switches.", 12 PGND (power) "Power Ground. Connect this pin close to the (-) terminal of CIN and COUT.", 13 PGND (power) "Power Ground. Connect this pin close to the (-) terminal of CIN and COUT.", 14 SW (power) "Switch Node Connection to the Inductor. This pin connects to the drains of the internal main and synchronous power MOSFET switches.", 15 SW (power) "Switch Node Connection to the Inductor. This pin connects to the drains of the internal main and synchronous power MOSFET switches.", 16 PVIN (power) "Power Input Supply. Decouple this pin to PGND with a capacitor", 17 EP (power) "Signal Ground. Must be soldered to PCB for electrical connection and rated thermal performance."

## LTC3412AMPFE#TR
designator U?
3 A, 4 MHz, Monolithic Synchronous Step-Down Regulator, 16-pin SOP (FE-16-EPV-BA), -55 to 125 degC, Tape and Reel; Manufacturer: Linear Technology; PartNumber: LTC3412AMPFE#TR; Number of Outputs: 1; PackageReference: FE-16; PackageDescription: 16-Pin Plastic TSSOP, Body 5 x 4.4 mm, Pitch 0.65 mm; RoHS: FALSE
footprint LT-FE-16-EPV-BA_N (SOP, 16-Leads, Body 5x4.4mm, Pitch 0.65mm, Thermal Pad 2.74x2.74mm, IPC Medium Density)
footprint LT-FE-16-EPV-BA_L (SOP, 16-Leads, Body 5x4.4mm, Pitch 0.65mm, Thermal Pad 2.74x2.74mm, IPC High Density)
footprint LT-FE-16-EPV-BA_M (SOP, 16-Leads, Body 5x4.4mm, Pitch 0.65mm, Thermal Pad 2.74x2.74mm, IPC Low Density)
pins: 1 SVIN (power) "Signal Input Supply. Decouple this pin to SGND with a capacitor.", 2 PGOOD (oc) "Power Good Output. Open-drain logic output that is pulled to ground when the output voltage is not within +/-7.5% of regulation point.", 3 ITH "Error Amplifier Compensation Point. The current comparator threshold increases with this control voltage. Nominal voltage range for this pin is from 0.2V to 1.4V with 0.4V corresponding to the zero-sense voltage (zero (See Datasheet)", 4 VFB (in) "Feedback Pin. Receives the feedback voltage from a resistive divider connected across the output.", 5 RT "Oscillator Resistor Input. Connecting a resistor to ground from this pin sets the switching frequency", 6 SYNC/MODE (in) "Mode Select and External Clock Synchronization Input. To select forced continuous, tie to SVIN. Connecting this pin to a voltage between 0V and 1V selects Burst Mode operation with the burst clamp set to the pin voltage.", 7 RUN/SS (in) "Run Control and Soft-Start Input. Forcing this pin below 0.5V shuts down the LTC3412A. In shutdown all functions are disabled drawing <1uA of  supply current. A capacitor to ground from this pin sets the ramp time to full (See Datasheet)", 8 SGND (power) "Signal Ground. All small-signal components, compensation components and the exposed pad on the bottom side of the IC should connect to this ground, which in turn connects to PGND at one point.", 9 PVIN (power) "Power Input Supply. Decouple this pin to PGND with a capacitor", 10 SW (power) "Switch Node Connection to the Inductor. This pin connects to the drains of the internal main and synchronous power MOSFET switches.", 11 SW (power) "Switch Node Connection to the Inductor. This pin connects to the drains of the internal main and synchronous power MOSFET switches.", 12 PGND (power) "Power Ground. Connect this pin close to the (-) terminal of CIN and COUT.", 13 PGND (power) "Power Ground. Connect this pin close to the (-) terminal of CIN and COUT.", 14 SW (power) "Switch Node Connection to the Inductor. This pin connects to the drains of the internal main and synchronous power MOSFET switches.", 15 SW (power) "Switch Node Connection to the Inductor. This pin connects to the drains of the internal main and synchronous power MOSFET switches.", 16 PVIN (power) "Power Input Supply. Decouple this pin to PGND with a capacitor", 17 EP (power) "Signal Ground. Must be soldered to PCB for electrical connection and rated thermal performance."

## LTC3412AMPFE#TRPBF
designator U?
3 A, 4 MHz, Monolithic Synchronous Step-Down Regulator, 16-pin SOP (FE-16-EPV-BA), -55 to 125 degC, Pb-Free, Tape and Reel; Manufacturer: Linear Technology; PartNumber: LTC3412AMPFE#TRPBF; Number of Outputs: 1; PackageReference: FE-16; PackageDescription: 16-Pin Plastic TSSOP, Body 5 x 4.4 mm, Pitch 0.65 mm; Supplier 1: Digi-Key; Supplier Part Number 1: LTC3412AMPFE#TRPBF-ND; RoHS: TRUE
footprint LT-FE-16-EPV-BA_N (SOP, 16-Leads, Body 5x4.4mm, Pitch 0.65mm, Thermal Pad 2.74x2.74mm, IPC Medium Density)
footprint LT-FE-16-EPV-BA_L (SOP, 16-Leads, Body 5x4.4mm, Pitch 0.65mm, Thermal Pad 2.74x2.74mm, IPC High Density)
footprint LT-FE-16-EPV-BA_M (SOP, 16-Leads, Body 5x4.4mm, Pitch 0.65mm, Thermal Pad 2.74x2.74mm, IPC Low Density)
pins: 1 SVIN (power) "Signal Input Supply. Decouple this pin to SGND with a capacitor.", 2 PGOOD (oc) "Power Good Output. Open-drain logic output that is pulled to ground when the output voltage is not within +/-7.5% of regulation point.", 3 ITH "Error Amplifier Compensation Point. The current comparator threshold increases with this control voltage. Nominal voltage range for this pin is from 0.2V to 1.4V with 0.4V corresponding to the zero-sense voltage (zero (See Datasheet)", 4 VFB (in) "Feedback Pin. Receives the feedback voltage from a resistive divider connected across the output.", 5 RT "Oscillator Resistor Input. Connecting a resistor to ground from this pin sets the switching frequency", 6 SYNC/MODE (in) "Mode Select and External Clock Synchronization Input. To select forced continuous, tie to SVIN. Connecting this pin to a voltage between 0V and 1V selects Burst Mode operation with the burst clamp set to the pin voltage.", 7 RUN/SS (in) "Run Control and Soft-Start Input. Forcing this pin below 0.5V shuts down the LTC3412A. In shutdown all functions are disabled drawing <1uA of  supply current. A capacitor to ground from this pin sets the ramp time to full (See Datasheet)", 8 SGND (power) "Signal Ground. All small-signal components, compensation components and the exposed pad on the bottom side of the IC should connect to this ground, which in turn connects to PGND at one point.", 9 PVIN (power) "Power Input Supply. Decouple this pin to PGND with a capacitor", 10 SW (power) "Switch Node Connection to the Inductor. This pin connects to the drains of the internal main and synchronous power MOSFET switches.", 11 SW (power) "Switch Node Connection to the Inductor. This pin connects to the drains of the internal main and synchronous power MOSFET switches.", 12 PGND (power) "Power Ground. Connect this pin close to the (-) terminal of CIN and COUT.", 13 PGND (power) "Power Ground. Connect this pin close to the (-) terminal of CIN and COUT.", 14 SW (power) "Switch Node Connection to the Inductor. This pin connects to the drains of the internal main and synchronous power MOSFET switches.", 15 SW (power) "Switch Node Connection to the Inductor. This pin connects to the drains of the internal main and synchronous power MOSFET switches.", 16 PVIN (power) "Power Input Supply. Decouple this pin to PGND with a capacitor", 17 EP (power) "Signal Ground. Must be soldered to PCB for electrical connection and rated thermal performance."

## LTC3413EFE
designator U?
3 A, 2 MHz Monolithic Synchronous Regulator for DDR/QDR Memory Termination, 16-pin SOP (FE-16-EPV-BA), -40 to 85 degC; Manufacturer: Linear Technology; PartNumber: LTC3413EFE; Number of Outputs: 1; PackageReference: FE-16; PackageDescription: 16-Pin Plastic TSSOP, Body 5 x 4.4 mm, Pitch 0.65 mm; Supplier 1: Digi-Key; Supplier Part Number 1: LTC3413EFE-ND; RoHS: FALSE
footprint LT-FE-16-EPV-BA_N (SOP, 16-Leads, Body 5x4.4mm, Pitch 0.65mm, Thermal Pad 2.74x2.74mm, IPC Medium Density)
footprint LT-FE-16-EPV-BA_L (SOP, 16-Leads, Body 5x4.4mm, Pitch 0.65mm, Thermal Pad 2.74x2.74mm, IPC High Density)
footprint LT-FE-16-EPV-BA_M (SOP, 16-Leads, Body 5x4.4mm, Pitch 0.65mm, Thermal Pad 2.74x2.74mm, IPC Low Density)
pins: 1 SVIN (power) "Signal Input Supply. Decouple this pin to SGND with a capacitor. SVIN must be greater or equal to PVIN, however, the difference between SVIN and PVIN must be less than 0.5V.", 2 PGOOD (oc) "Power Good Output. Open-drain logic output that is pulled to ground when the output voltage is not within +/-10% of regulation point.", 3 ITH "Error Amplifier Compensation Point. The current comparator threshold increases with this control voltage. Nominal voltage range for this pin is from 0.2V to 1.4V with 0.6V corresponding to the zero-sense voltage (zero (See Datasheet)", 4 VFB (in) "Feedback Pin. Receives the feedback voltage from the output", 5 RT "Oscillator Resistor Input. Connecting a resistor to ground from this pin sets the switching frequency", 6 VREF (in) "Reference Voltage Input. The positive input of the internal error amplifier senses one-half of the voltage at this pin through a resistor divider.", 7 RUN/SS (in) "Run Control and Soft-Start Input. Forcing this pin below 0.5V shuts down the LTC3413. In shutdown all functions are disabled drawing < 1uA of supply current. A capacitor to ground from this pin sets the ramp time to full (See Datasheet)", 8 SGND (power) "Signal Ground. All small-signal components and compensation components should connect to this ground, which in turn connects to PGND at one point.", 9 PVIN (power) "Power Input Supply. Decouple this pin to PGND with a capacitor.", 10 SW (power) "Switch Node Connection to Inductor. This pin connects to the drains of the internal main and synchronous power MOSFET switches.", 11 SW (power) "Switch Node Connection to Inductor. This pin connects to the drains of the internal main and synchronous power MOSFET switches.", 12 PGND (power) "Power Ground. Connect this pin closely to the (-) terminal of CIN and COUT.", 13 PGND (power) "Power Ground. Connect this pin closely to the (-) terminal of CIN and COUT.", 14 SW (power) "Switch Node Connection to Inductor. This pin connects to the drains of the internal main and synchronous power MOSFET switches.", 15 SW (power) "Switch Node Connection to Inductor. This pin connects to the drains of the internal main and synchronous power MOSFET switches.", 16 PVIN (power) "Power Input Supply. Decouple this pin to PGND with a capacitor.", 17 EP (power) "Should be connected to PCB ground."